# Altium footprint library AUVic_Integrated_Library_Interface.PcbLib: 12 footprints
Each footprint in its own frame and in the unit in brackets; x right, y up, seen from the top. Pads: shape width x height; smd on the part's side, far side on the other; paste and mask are expansions set on the pad; w line width, h text height; cw(c..) or ccw(c..) is an arc to the next point about the centre after c.
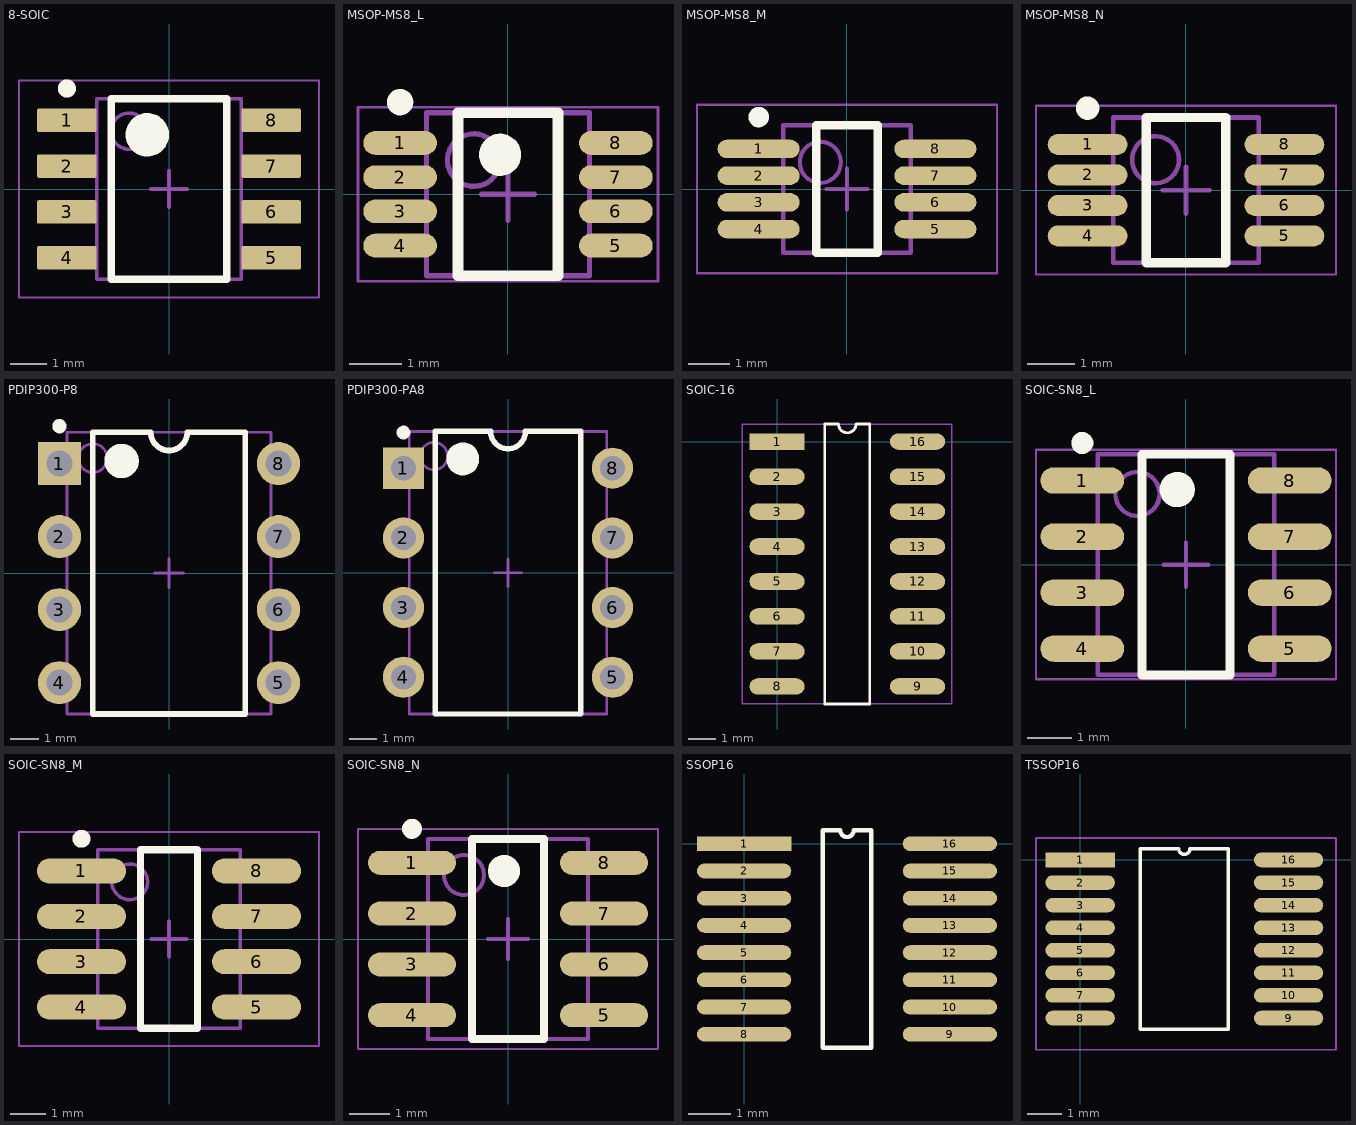
[diagram p0: the footprints below, top view; thin cyan lines are the x and y axes]

## 8-SOIC [mm] "SOIC, 8-Leads, Body 5x4mm, Pitch 1.27mm, IPC Low Density"
height 1.75
pads (8):
  rrect15% 1.65x0.65 smd: 1(-2.825,1.905) 2(-2.825,0.635) 3(-2.825,-0.635) 4(-2.825,-1.905) 5(2.825,-1.905) 6(2.825,-0.635) 7(2.825,0.635) 8(2.825,1.905)
Top Overlay:
  circle w0.25: c-2.825,2.78 r0.125
  circle w0.6: c-0.6,1.5 r0.3
  lines w0.2: -1.6,-2.5 -1.6,2.5 1.6,2.5 1.6,-2.5 -1.6,-2.5
Mechanical 1:
  text ".Designator" at -1.397,-0.254 h0.6
Body Top:
  circle w0.1: c-1.1,1.6 r0.5
  lines w0.1: -2,-2.5 -2,2.5 2,2.5 2,-2.5 -2,-2.5
Courtyard Top:
  lines w0.05: -4.15,-3 -4.15,3 4.15,3 4.15,-3 -4.15,-3
  lines w0.1: -0.5,0 0.5,0 ; 0,-0.5 0,0.5
3D body "SOIC-8akaD0008AakaM08A.stp": height 1.63, standoff 0, extent -3,-2.45 3,2.45

## MSOP-MS8_L [mm] "TSOP, 8-Leads, Body 3x3mm, Pitch 0.65mm, IPC High Density"
height 1.1
pads (8):
  oval 1.4x0.45 smd: 1(-2.05,0.975) 2(-2.05,0.325) 3(-2.05,-0.325) 4(-2.05,-0.975) 5(2.05,-0.975) 6(2.05,-0.325) 7(2.05,0.325) 8(2.05,0.975)
Top Overlay:
  circle w0.25: c-2.05,1.75 r0.125
  circle w0.4: c-0.15,0.75 r0.2
  lines w0.2: -0.95,-1.55 -0.95,1.55 0.95,1.55 0.95,-1.55 -0.95,-1.55
Body Top:
  circle w0.1: c-0.65,0.65 r0.5
  lines w0.1: -1.55,-1.55 -1.55,1.55 1.55,1.55 1.55,-1.55 -1.55,-1.55
Courtyard Top:
  lines w0.05: -2.85,-1.65 -2.85,1.65 2.85,1.65 2.85,-1.65 -2.85,-1.65
  lines w0.1: -0.5,0 0.5,0 ; 0,-0.5 0,0.5
3D body: height 1.1, standoff 0, extent -1.55,-1.55 1.55,1.55

## MSOP-MS8_M [mm] "TSOP, 8-Leads, Body 3x3mm, Pitch 0.65mm, IPC Low Density"
height 1.1
pads (8):
  oval 2x0.45 smd: 1(-2.15,0.975) 2(-2.15,0.325) 3(-2.15,-0.325) 4(-2.15,-0.975) 5(2.15,-0.975) 6(2.15,-0.325) 7(2.15,0.325) 8(2.15,0.975)
Top Overlay:
  circle w0.25: c-2.15,1.75 r0.125
  lines w0.2: -0.75,-1.55 -0.75,1.55 0.75,1.55 0.75,-1.55 -0.75,-1.55
Body Top:
  circle w0.1: c-0.65,0.65 r0.5
  lines w0.1: -1.55,-1.55 -1.55,1.55 1.55,1.55 1.55,-1.55 -1.55,-1.55
Courtyard Top:
  lines w0.05: -3.65,-2.05 -3.65,2.05 3.65,2.05 3.65,-2.05 -3.65,-2.05
  lines w0.1: -0.5,0 0.5,0 ; 0,-0.5 0,0.5
3D body: height 1.1, standoff 0, extent -1.55,-1.55 1.55,1.55

## MSOP-MS8_N [mm] "TSOP, 8-Leads, Body 3x3mm, Pitch 0.65mm, IPC Medium Density"
height 1.1
pads (8):
  oval 1.7x0.45 smd: 1(-2.1,0.975) 2(-2.1,0.325) 3(-2.1,-0.325) 4(-2.1,-0.975) 5(2.1,-0.975) 6(2.1,-0.325) 7(2.1,0.325) 8(2.1,0.975)
Top Overlay:
  circle w0.25: c-2.1,1.75 r0.125
  lines w0.2: -0.85,-1.55 0.85,-1.55 0.85,1.55 -0.85,1.55 -0.85,-1.55
Body Top:
  circle w0.1: c-0.65,0.65 r0.5
  lines w0.1: -1.55,-1.55 1.55,-1.55 1.55,1.55 -1.55,1.55 -1.55,-1.55
Courtyard Top:
  lines w0.05: -3.2,-1.8 3.2,-1.8 3.2,1.8 -3.2,1.8 -3.2,-1.8
  lines w0.1: -0.5,0 0.5,0 ; 0,-0.5 0,0.5
3D body: height 1.1, standoff 0, extent -1.55,-1.55 1.55,1.55

## PDIP300-P8 [mm] "DIP, 8-Leads, Row Spacing 7.62mm, Pitch 2.54mm, Body 9.5x6.6mm"
height 4.32
pads (8):
  rect 1.5x1.5 hole 0.9: 1(-3.81,3.81)
  round 1.5 hole 0.9: 2(-3.81,1.27) 3(-3.81,-1.27) 4(-3.81,-3.81) 5(3.81,-3.81) 6(3.81,-1.27) 7(3.81,1.27) 8(3.81,3.81)
Top Overlay:
  circle w0.6: c-1.65,3.9 r0.3
  circle w0.25: c-3.81,5.11 r0.125
  lines w0.2: -2.65,-4.9 2.65,-4.9 2.65,4.9 0.635,4.9 cw(c0,4.9) -0.635,4.9 -2.65,4.9 -2.65,-4.9
Body Top:
  circle w0.1: c-2.65,4 r0.5
  lines w0.1: -3.55,-4.9 3.55,-4.9 3.55,4.9 -3.55,4.9 -3.55,-4.9
Courtyard Top:
  lines w0.1: -0.5,0 0.5,0 ; 0,-0.5 0,0.5
3D body: height 4.32, standoff 0, extent -3.55,-4.9 3.55,4.9

## PDIP300-PA8 [mm] "DIP, 8-Leads, Row Spacing 7.62mm, Pitch 2.54mm, Body 9.5x6.6mm"
height 5.33
pads (8):
  rect 1.5x1.5 hole 0.9: 1(-3.81,3.81)
  round 1.5 hole 0.9: 2(-3.81,1.27) 3(-3.81,-1.27) 4(-3.81,-3.81) 5(3.81,-3.81) 6(3.81,-1.27) 7(3.81,1.27) 8(3.81,3.81)
Top Overlay:
  circle w0.6: c-1.65,4.15 r0.3
  circle w0.25: c-3.81,5.11 r0.125
  lines w0.2: -2.65,-5.15 2.65,-5.15 2.65,5.15 0.635,5.15 cw(c0,5.15) -0.635,5.15 -2.65,5.15 -2.65,-5.15
Body Top:
  circle w0.1: c-2.7,4.25 r0.5
  lines w0.1: -3.6,-5.15 3.6,-5.15 3.6,5.15 -3.6,5.15 -3.6,-5.15
Courtyard Top:
  lines w0.1: -0.5,0 0.5,0 ; 0,-0.5 0,0.5
3D body: height 5.33, standoff 0, extent -3.6,-5.15 3.6,5.15

## SOIC-16 [mm]
pads (16):
  rect 2x0.6 smd: 1(0,0)
  oval 2x0.6 smd: 2(0,-1.27) 3(0,-2.54) 4(0,-3.81) 5(0,-5.08) 6(0,-6.35) 7(0,-7.62) 8(0,-8.89) 9(5.1,-8.89) 10(5.1,-7.62) 11(5.1,-6.35) 12(5.1,-5.08) 13(5.1,-3.81) 14(5.1,-2.54) 15(5.1,-1.27) 16(5.1,0)
Top Overlay:
  lines w0.1: 1.735,-9.525 3.365,-9.525 3.365,0.635 2.867,0.635 cw(c2.55,0.635) 2.232,0.635 1.735,0.635 1.735,-9.525
Courtyard Top:
  lines w0.05: -1.27,-9.525 6.35,-9.525 6.35,0.635 -1.27,0.635 -1.27,-9.525
3D body "User Library-so16.step": height 1.7, standoff 0, extent -0.46,-9.545 5.54,0.655

## SOIC-SN8_L [mm] "SOIC, 8-Leads, Body 4.9x3.8mm, Pitch 1.27mm, IPC High Density"
height 1.75
pads (8):
  oval 1.9x0.6 smd: 1(-2.35,1.905) 2(-2.35,0.635) 3(-2.35,-0.635) 4(-2.35,-1.905) 5(2.35,-1.905) 6(2.35,-0.635) 7(2.35,0.635) 8(2.35,1.905)
Top Overlay:
  circle w0.4: c-0.2,1.7 r0.2
  circle w0.25: c-2.35,2.755 r0.125
  lines w0.2: -1,-2.5 1,-2.5 1,2.5 -1,2.5 -1,-2.5
Body Top:
  circle w0.1: c-1.1,1.6 r0.5
  lines w0.1: -2,-2.5 2,-2.5 2,2.5 -2,2.5 -2,-2.5
Courtyard Top:
  lines w0.05: -3.4,-2.6 3.4,-2.6 3.4,2.6 -3.4,2.6 -3.4,-2.6
  lines w0.1: -0.5,0 0.5,0 ; 0,-0.5 0,0.5
3D body: height 1.75, standoff 0.1, extent -2,-2.5 2,2.5

## SOIC-SN8_M [mm] "SOIC, 8-Leads, Body 4.9x3.8mm, Pitch 1.27mm, IPC Low Density"
height 1.75
pads (8):
  oval 2.5x0.7 smd: 1(-2.45,1.905) 2(-2.45,0.635) 3(-2.45,-0.635) 4(-2.45,-1.905) 5(2.45,-1.905) 6(2.45,-0.635) 7(2.45,0.635) 8(2.45,1.905)
Top Overlay:
  circle w0.25: c-2.45,2.805 r0.125
  lines w0.2: -0.8,-2.5 -0.8,2.5 0.8,2.5 0.8,-2.5 -0.8,-2.5
Body Top:
  circle w0.1: c-1.1,1.6 r0.5
  lines w0.1: -2,-2.5 -2,2.5 2,2.5 2,-2.5 -2,-2.5
Courtyard Top:
  lines w0.05: -4.2,-3 -4.2,3 4.2,3 4.2,-3 -4.2,-3
  lines w0.1: -0.5,0 0.5,0 ; 0,-0.5 0,0.5
3D body: height 1.75, standoff 0.1, extent -2,-2.5 2,2.5

## SOIC-SN8_N [mm] "SOIC, 8-Leads, Body 4.9x3.8mm, Pitch 1.27mm, IPC Medium Density"
height 1.75
pads (8):
  oval 2.2x0.6 smd: 1(-2.4,1.905) 2(-2.4,0.635) 3(-2.4,-0.635) 4(-2.4,-1.905) 5(2.4,-1.905) 6(2.4,-0.635) 7(2.4,0.635) 8(2.4,1.905)
Top Overlay:
  circle w0.25: c-2.4,2.755 r0.125
  circle w0.4: c-0.1,1.7 r0.2
  lines w0.2: -0.9,-2.5 -0.9,2.5 0.9,2.5 0.9,-2.5 -0.9,-2.5
Body Top:
  circle w0.1: c-1.1,1.6 r0.5
  lines w0.1: -2,-2.5 -2,2.5 2,2.5 2,-2.5 -2,-2.5
Courtyard Top:
  lines w0.05: -3.75,-2.75 -3.75,2.75 3.75,2.75 3.75,-2.75 -3.75,-2.75
  lines w0.1: -0.5,0 0.5,0 ; 0,-0.5 0,0.5
3D body: height 1.75, standoff 0.1, extent -2,-2.5 2,2.5

## SSOP16 [mm]
pads (16):
  rect 2.2x0.345 smd: 1(0,0)
  oval 2.2x0.345 smd: 2(0,-0.635) 3(0,-1.27) 4(0,-1.905) 5(0,-2.54) 6(0,-3.175) 7(0,-3.81) 8(0,-4.445) 9(4.8,-4.445) 10(4.8,-3.81) 11(4.8,-3.175) 12(4.8,-2.54) 13(4.8,-1.905) 14(4.8,-1.27) 15(4.8,-0.635) 16(4.8,0)
Top Overlay:
  lines w0.1: 1.835,-4.763 1.835,0.318 2.241,0.318 ccw(c2.4,0.318) 2.559,0.317 2.965,0.318 2.965,-4.763 1.835,-4.763

## TSSOP16 [mm]
pads (16):
  rect 2x0.42 smd: 1(0,0)
  oval 2x0.42 smd: 2(0,-0.65) 3(0,-1.3) 4(0,-1.95) 5(0,-2.6) 6(0,-3.25) 7(0,-3.9) 8(0,-4.55) 9(6,-4.55) 10(6,-3.9) 11(6,-3.25) 12(6,-2.6) 13(6,-1.95) 14(6,-1.3) 15(6,-0.65) 16(6,0)
Top Overlay:
  lines w0.1: 1.735,-4.875 1.735,0.325 2.838,0.325 ccw(c3,0.325) 3.162,0.325 4.265,0.325 4.265,-4.875 1.735,-4.875
Courtyard Top:
  lines w0.05: -1.27,-5.461 -1.27,0.635 6.985,0.635 7.366,0.635 7.366,-5.461 -1.27,-5.461
3D body "User Library-TSSOP-16-1.step": height 1.1, standoff 0, extent -0.152,-4.786 6.248,0.214